# Altium schematic symbol library Capasitors.SchLib: 2 symbols
Pins are listed as number, name and electrical type; pins without a type are passive.

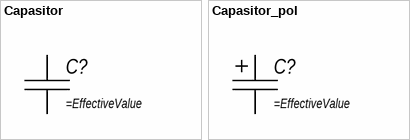
[diagram p0: symbols Capasitor to Capasitor_pol]

## Capasitor
designator C?
pins: 1, 2

## Capasitor_pol
designator C?
pins: 1, 2